# Altium schematic symbol library TYPE-C-31-M-17.SchLib: 1 symbol
Pins are listed as number, name and electrical type; pins without a type are passive.

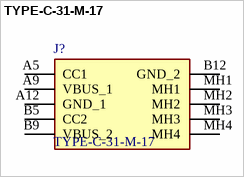
[diagram p0: symbol TYPE-C-31-M-17]

## TYPE-C-31-M-17
designator J?
USB Connectors 6 Receptacle 1 RoHS; Manufacturer_Name: Korean Hroparts Elec; Geometry.Height: 3.26mm; Manufacturer_Part_Number: TYPE-C-31-M-17; Mouser Part Number: *; Mouser Price/Stock: *; Arrow Part Number: *; Arrow Price/Stock: *; Datasheet Link: https://datasheet.lcsc.com/szlcsc/1903211732_Korean-Hroparts-Elec-TYPE-C-31-M-17_C283540.pdf
footprint TYPEC31M17
pins: A5 CC1, A9 VBUS_1, A12 GND_1, B5 CC2, B9 VBUS_2, B12 GND_2, MH1, MH2, MH3, MH4